# Altium footprint library CeleronLib_Connect.PcbLib: 219 footprints (part 9 of 14)
Each footprint in its own frame and in the unit in brackets; x right, y up, seen from the top. Pads: shape width x height; smd on the part's side, far side on the other; paste and mask are expansions set on the pad; w line width, h text height; cw(c..) or ccw(c..) is an arc to the next point about the centre after c.
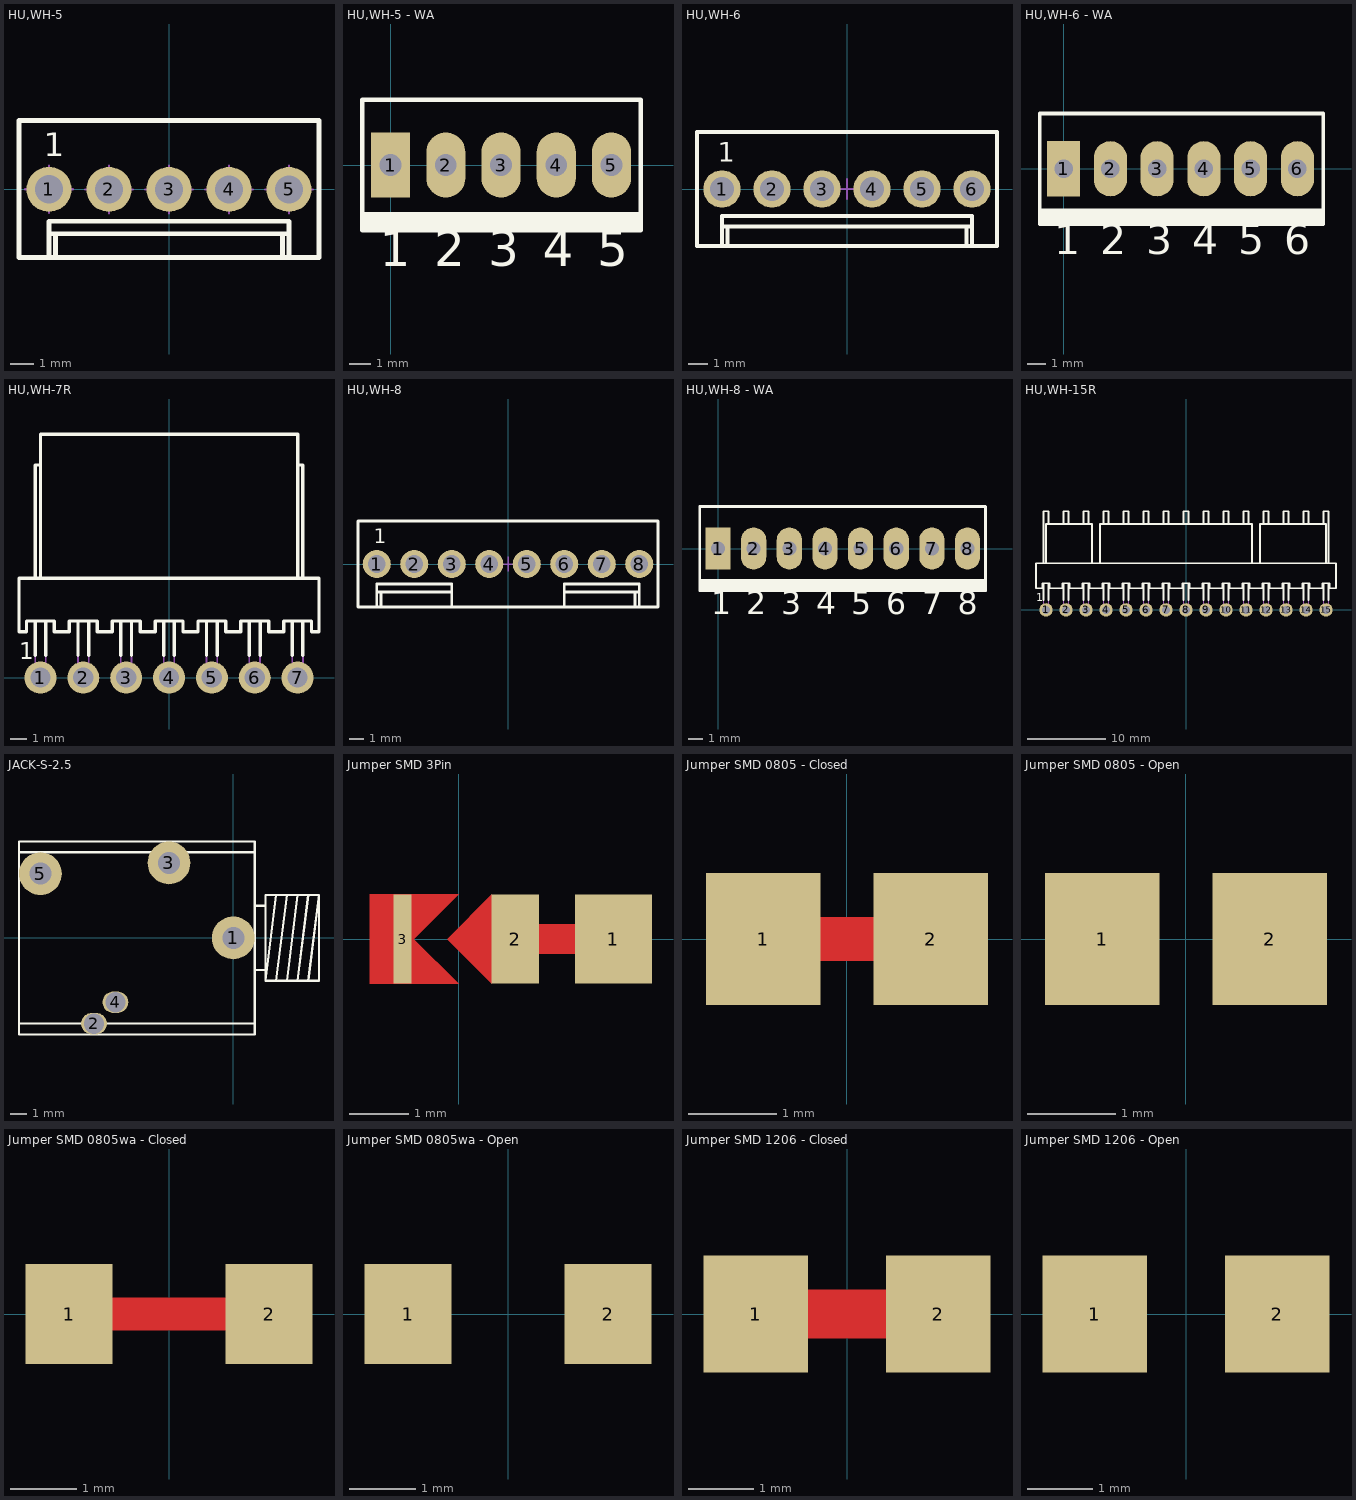
[diagram p8: the footprints below, top view; thin cyan lines are the x and y axes]

## HU,WH-5 [mm] "2.54mm (.100\") Pitch KK® Header, Single Row, Vertical, 5 Circuits"
height 11.7
pads (5):
  round 1.9 hole 1.2: 1(-5.08,0.005) 2(-2.54,0) 3(0,0) 4(2.54,0) 5(5.08,0)
Top Overlay:
  lines w0.2: -5.08,-2.88 -5.08,-1.35 5.08,-1.35 5.08,-2.88 ; -5.08,-1.88 5.08,-1.88 ; -4.807,-2.88 -4.807,-1.88 ; 4.807,-2.88 4.807,-1.88 ; -6.35,-2.88 -6.35,2.92 6.35,2.92 6.35,-2.88 -6.35,-2.88
  text "1" at -5.3,1.4 h1
Mechanical 8:
  lines w0.1: -6.08,0.005 -5.08,0.005 ; -5.08,-0.995 -5.08,0.005 ; -5.08,1.005 -5.08,0.005 ; -4.08,0.005 -5.08,0.005 ; -3.54,0 -2.54,0 ; -2.54,-1 -2.54,0 ; -2.54,1 -2.54,0 ; -1.54,0 -2.54,0 ; -1,0 0,0 ; 0,-1 0,0 ; 0,1 0,0 ; 1,0 0,0 ; 1.54,0 2.54,0 ; 2.54,-1 2.54,0 ; 2.54,1 2.54,0 ; 3.54,0 2.54,0 ; 4.08,0 5.08,0 ; 5.08,-1 5.08,0 ; 5.08,1 5.08,0 ; 6.08,0 5.08,0
Top Assy:
  lines w0.1: -5.08,-2.88 -5.08,-1.35 5.08,-1.35 5.08,-2.88 ; -5.08,-1.88 5.08,-1.88 ; -4.807,-2.88 -4.807,-1.88 ; 4.807,-2.88 4.807,-1.88 ; -6.35,-2.88 -6.35,2.92 6.35,2.92 6.35,-2.88 -6.35,-2.88 ; -5.4,-0.315 -4.76,-0.315 -4.76,0.325 -5.4,0.325 -5.4,-0.315 ; -2.86,-0.32 -2.86,0.32 -2.22,0.32 -2.22,-0.32 -2.86,-0.32 ; -0.32,-0.32 0.32,-0.32 0.32,0.32 -0.32,0.32 -0.32,-0.32 ; 2.22,-0.32 2.86,-0.32 2.86,0.32 2.22,0.32 2.22,-0.32 ; 4.76,-0.32 5.4,-0.32 5.4,0.32 4.76,0.32 4.76,-0.32
  text "1" at -5.3,1.4 h1
3D body: height 11.7, standoff -3.56, extent -6.35,-2.88 6.35,2.92

## HU,WH-5 - WA [mm] "Connector; Header; 5 Position"
height 16.2
pads (5):
  rect 1.8x3 hole 1: 1(0,0)
  oval 1.8x3 hole 1: 2(2.54,0) 3(5.08,0) 4(7.62,0) 5(10.16,0)
Top Overlay:
  rectangle: -1.25,-3 11.5,-2.159
  lines w0.2: -1.3,-3 11.5,-3 11.5,3 -1.3,3 -1.3,-3
  text "1" at -0.5,-5.2 h2.8
  text "2" at 2,-5.2 h2.8
  text "3" at 4.5,-5.2 h2.8
  text "4" at 7,-5.2 h2.8
  text "5" at 9.5,-5.2 h2.8
3D body: height 11.7, standoff -3.56, extent -1.27,-2.88 11.43,2.92

## HU,WH-6 [mm] "2.54mm (.100\") Pitch KK® Header, Single Row, Vertical, 6 Circuits"
height 11.7
pads (6):
  round 1.9 hole 1.2: 1(-6.35,0) 2(-3.81,0) 3(-1.27,0) 4(1.27,0) 5(3.81,0) 6(6.35,0)
Top Overlay:
  lines w0.2: -6.35,-2.9 -6.35,-1.37 6.35,-1.37 6.35,-2.9 ; -6.35,-1.9 6.35,-1.9 ; -6.077,-2.9 -6.077,-1.9 ; 6.077,-2.9 6.077,-1.9 ; -7.62,-2.9 -7.62,2.9 7.62,2.9 7.62,-2.9 -7.62,-2.9
  text "1" at -6.57,1.395 h1
Mechanical 8:
  lines w0.1: -6.85,0 -6.35,0 ; -6.35,-0.5 -6.35,0 ; -6.35,0.5 -6.35,0 ; -5.85,0 -6.35,0 ; -4.31,0 -3.81,0 ; -3.81,-0.5 -3.81,0 ; -3.81,0.5 -3.81,0 ; -3.31,0 -3.81,0 ; -1.77,0 -1.27,0 ; -1.27,-0.5 -1.27,0 ; -1.27,0.5 -1.27,0 ; -0.77,0 -1.27,0 ; -0.5,0 0,0 ; 0,-0.5 0,0 ; 0,0.5 0,0 ; 0.5,0 0,0 ; 0.77,0 1.27,0 ; 1.27,-0.5 1.27,0 ; 1.27,0.5 1.27,0 ; 1.77,0 1.27,0 ; 3.31,0 3.81,0 ; 3.81,-0.5 3.81,0 ; 3.81,0.5 3.81,0 ; 4.31,0 3.81,0 ; 5.85,0 6.35,0 ; 6.35,-0.5 6.35,0 ; 6.35,0.5 6.35,0 ; 6.85,0 6.35,0
Top Assy:
  lines w0.1: -6.35,-2.9 -6.35,-1.37 6.35,-1.37 6.35,-2.9 ; -6.35,-1.9 6.35,-1.9 ; -6.077,-2.9 -6.077,-1.9 ; 6.077,-2.9 6.077,-1.9 ; -7.62,-2.9 -7.62,2.9 7.62,2.9 7.62,-2.9 -7.62,-2.9 ; -6.67,-0.34 -6.03,-0.34 -6.03,0.3 -6.67,0.3 -6.67,-0.34 ; -4.13,-0.34 -4.13,0.3 -3.49,0.3 -3.49,-0.34 -4.13,-0.34 ; -1.59,-0.34 -0.95,-0.34 -0.95,0.3 -1.59,0.3 -1.59,-0.34 ; 0.95,-0.34 1.59,-0.34 1.59,0.3 0.95,0.3 0.95,-0.34 ; 3.49,-0.34 3.49,0.3 4.13,0.3 4.13,-0.34 3.49,-0.34 ; 6.03,-0.34 6.03,0.3 6.67,0.3 6.67,-0.34 6.03,-0.34
  text "1" at -6.57,1.395 h1
3D body: height 11.7, standoff -3.56, extent -7.62,-2.9 7.62,2.9

## HU,WH-6 - WA [mm] "Connector; Header; 6 Position"
height 16.2
pads (6):
  rect 1.8x3 hole 1: 1(0,0)
  oval 1.8x3 hole 1: 2(2.54,0) 3(5.08,0) 4(7.62,0) 5(10.16,0) 6(12.7,0)
Top Overlay:
  rectangle: -1.25,-3 14.1,-2.159
  lines w0.2: -1.3,-3 -1.3,3 14.1,3 14.1,-3 -1.3,-3
  text "1" at -0.5,-5.2 h2.8
  text "2" at 2,-5.2 h2.8
  text "3" at 4.5,-5.2 h2.8
  text "4" at 7,-5.2 h2.8
  text "5" at 9.5,-5.2 h2.8
  text "6" at 12,-5.2 h2.8
3D body: height 11.7, standoff -3.56, extent -1.27,-2.9 13.97,2.9

## HU,WH-7R [mm] "2.54mm (.100\") Pitch KK® Wire-To-Board Header, Right Angle, With Friction Lock, 7 Circuits"
height 5.8
pads (7):
  round 1.9 hole 1.2: 1(-7.62,0) 2(-5.08,0) 3(-2.54,0) 4(0,0) 5(2.54,0) 6(5.08,0) 7(7.62,0)
Top Overlay:
  lines w0.2: -7.937,1.312 -7.937,3.355 ; -7.937,5.895 -7.937,12.605 -7.62,12.605 ; -7.62,5.895 -7.62,14.42 7.62,14.42 7.62,5.895 ; -7.302,1.312 -7.302,3.355 ; -5.397,1.312 -5.397,3.355 ; -4.762,1.312 -4.762,3.355 ; -2.857,1.312 -2.857,3.355 ; -2.222,1.312 -2.222,3.355 ; -0.317,1.312 -0.317,3.355 ; 0.318,1.312 0.318,3.355 ; 2.223,1.312 2.223,3.355 ; 2.858,1.312 2.858,3.355 ; 4.763,1.312 4.763,3.355 ; 5.398,1.312 5.398,3.355 ; 7.303,1.312 7.303,3.355 ; 7.62,12.605 7.938,12.605 7.938,5.895 ; 7.938,1.312 7.938,3.355 ; -8.89,2.72 -8.445,2.72 -8.445,3.355 -6.794,3.355 -6.794,2.72 -5.905,2.72 -5.905,3.355 -4.254,3.355 -4.254,2.72 -3.365,2.72 -3.365,3.355 -1.714,3.355 -1.714,2.72 -0.825,2.72 -0.825,3.355 0.826,3.355 0.826,2.72 1.715,2.72 1.715,3.355 3.366,3.355 3.366,2.72 4.255,2.72 4.255,3.355 5.906,3.355 5.906,2.72 6.795,2.72 6.795,3.355 8.446,3.355 8.446,2.72 8.89,2.72 8.89,5.895 -8.89,5.895 -8.89,2.72
  text "1" at -8.892,1.093 h1
Mechanical 8:
  lines w0.1: -8.12,0 -7.62,0 ; -7.62,-0.5 -7.62,0 ; -7.62,0.5 -7.62,0 ; -7.12,0 -7.62,0 ; -5.58,0 -5.08,0 ; -5.08,-0.5 -5.08,0 ; -5.08,0.5 -5.08,0 ; -4.58,0 -5.08,0 ; -3.04,0 -2.54,0 ; -2.54,-0.5 -2.54,0 ; -2.54,0.5 -2.54,0 ; -2.04,0 -2.54,0 ; -0.5,0 0,0 ; 0,-0.5 0,0 ; 0,0.5 0,0 ; 0.5,0 0,0 ; 2.04,0 2.54,0 ; 2.54,-0.5 2.54,0 ; 2.54,0.5 2.54,0 ; 3.04,0 2.54,0 ; 4.58,0 5.08,0 ; 5.08,-0.5 5.08,0 ; 5.08,0.5 5.08,0 ; 5.58,0 5.08,0 ; 7.12,0 7.62,0 ; 7.62,-0.5 7.62,0 ; 7.62,0.5 7.62,0 ; 8.12,0 7.62,0
Top Assy:
  lines w0.1: -7.937,3.355 -7.937,-0.318 -7.302,-0.318 -7.302,3.355 ; -7.937,5.895 -7.937,12.605 -7.62,12.605 ; -7.62,5.895 -7.62,14.42 7.62,14.42 7.62,5.895 ; -5.397,3.355 -5.397,-0.318 -4.762,-0.318 -4.762,3.355 ; -2.857,3.355 -2.857,-0.318 -2.222,-0.318 -2.222,3.355 ; -0.317,3.355 -0.317,-0.318 0.318,-0.318 0.318,3.355 ; 2.223,3.355 2.223,-0.318 2.858,-0.318 2.858,3.355 ; 4.763,3.355 4.763,-0.318 5.398,-0.318 5.398,3.355 ; 7.303,3.355 7.303,-0.318 7.938,-0.318 7.938,3.355 ; 7.62,12.605 7.938,12.605 7.938,5.895 ; -8.89,2.72 -8.445,2.72 -8.445,3.355 -6.794,3.355 -6.794,2.72 -5.905,2.72 -5.905,3.355 -4.254,3.355 -4.254,2.72 -3.365,2.72 -3.365,3.355 -1.714,3.355 -1.714,2.72 -0.825,2.72 -0.825,3.355 0.826,3.355 0.826,2.72 1.715,2.72 1.715,3.355 3.366,3.355 3.366,2.72 4.255,2.72 4.255,3.355 5.906,3.355 5.906,2.72 6.795,2.72 6.795,3.355 8.446,3.355 8.446,2.72 8.89,2.72 8.89,5.895 -8.89,5.895 -8.89,2.72
  text "1" at -8.892,1.093 h1
3D body: height 5.84, standoff -3.8, extent -8.89,-0.317 8.89,14.42

## HU,WH-8 [mm] "2.54mm (.100\") Pitch KK® Header, Single Row, Vertical, 8 Circuits"
height 11.7
pads (8):
  round 1.9 hole 1.2: 1(-8.89,0) 2(-6.35,0) 3(-3.81,0) 4(-1.27,0) 5(1.27,0) 6(3.81,0) 7(6.35,0) 8(8.89,0)
Top Overlay:
  lines w0.2: -8.89,-2.9 -8.89,-1.37 -3.81,-1.37 -3.81,-2.9 ; -8.89,-1.9 -3.81,-1.9 ; -8.617,-2.9 -8.617,-1.9 ; 3.81,-2.9 3.81,-1.37 8.89,-1.37 8.89,-2.9 ; 3.81,-1.9 8.89,-1.9 ; 8.617,-2.9 8.617,-1.9 ; -10.16,-2.9 -10.16,2.9 10.16,2.9 10.16,-2.9 -10.16,-2.9
  text "1" at -9.11,1.395 h1
Mechanical 8:
  lines w0.1: -9.39,0 -8.89,0 ; -8.89,-0.5 -8.89,0 ; -8.89,0.5 -8.89,0 ; -8.39,0 -8.89,0 ; -6.85,0 -6.35,0 ; -6.35,-0.5 -6.35,0 ; -6.35,0.5 -6.35,0 ; -5.85,0 -6.35,0 ; -4.31,0 -3.81,0 ; -3.81,-0.5 -3.81,0 ; -3.81,0.5 -3.81,0 ; -3.31,0 -3.81,0 ; -1.77,0 -1.27,0 ; -1.27,-0.5 -1.27,0 ; -1.27,0.5 -1.27,0 ; -0.77,0 -1.27,0 ; -0.5,0 0,0 ; 0,-0.5 0,0 ; 0,0.5 0,0 ; 0.5,0 0,0 ; 0.77,0 1.27,0 ; 1.27,-0.5 1.27,0 ; 1.27,0.5 1.27,0 ; 1.77,0 1.27,0 ; 3.31,0 3.81,0 ; 3.81,-0.5 3.81,0 ; 3.81,0.5 3.81,0 ; 4.31,0 3.81,0 ; 5.85,0 6.35,0 ; 6.35,-0.5 6.35,0 ; 6.35,0.5 6.35,0 ; 6.85,0 6.35,0 ; 8.39,0 8.89,0 ; 8.89,-0.5 8.89,0 ; 8.89,0.5 8.89,0 ; 9.39,0 8.89,0
Top Assy:
  lines w0.1: -8.89,-2.9 -8.89,-1.37 -3.81,-1.37 -3.81,-2.9 ; -8.89,-1.9 -3.81,-1.9 ; -8.617,-2.9 -8.617,-1.9 ; 3.81,-2.9 3.81,-1.37 8.89,-1.37 8.89,-2.9 ; 3.81,-1.9 8.89,-1.9 ; 8.617,-2.9 8.617,-1.9 ; -10.16,-2.9 -10.16,2.9 10.16,2.9 10.16,-2.9 -10.16,-2.9 ; -9.21,-0.34 -8.57,-0.34 -8.57,0.3 -9.21,0.3 -9.21,-0.34 ; -6.67,-0.34 -6.67,0.3 -6.03,0.3 -6.03,-0.34 -6.67,-0.34 ; -4.13,-0.34 -3.49,-0.34 -3.49,0.3 -4.13,0.3 -4.13,-0.34 ; -1.59,-0.34 -0.95,-0.34 -0.95,0.3 -1.59,0.3 -1.59,-0.34 ; 0.95,-0.34 0.95,0.3 1.59,0.3 1.59,-0.34 0.95,-0.34 ; 3.49,-0.34 3.49,0.3 4.13,0.3 4.13,-0.34 3.49,-0.34 ; 6.03,-0.34 6.03,0.3 6.67,0.3 6.67,-0.34 6.03,-0.34 ; 8.57,-0.34 8.57,0.3 9.21,0.3 9.21,-0.34 8.57,-0.34
  text "1" at -9.11,1.395 h1
3D body: height 11.7, standoff -3.56, extent -10.16,-2.9 10.16,2.9

## HU,WH-8 - WA [mm] "Connector; Header; 8 Position"
height 16.2
pads (8):
  rect 1.8x3 hole 1: 1(0,0)
  oval 1.8x3 hole 1: 2(2.54,0) 3(5.08,0) 4(7.62,0) 5(10.16,0) 6(12.7,0) 7(15.24,0) 8(17.78,0)
Top Overlay:
  rectangle: -1.25,-3 19.05,-2.159
  lines w0.2: -1.3,-3 -1.3,3 19.053,3 19.053,-3 -1.3,-3
  text "1" at -0.5,-5.2 h2.8
  text "2" at 2,-5.2 h2.8
  text "3" at 4.5,-5.2 h2.8
  text "4" at 7,-5.2 h2.8
  text "5" at 9.5,-5.2 h2.8
  text "6" at 12,-5.2 h2.8
  text "7" at 14.54,-5.2 h2.8
  text "8" at 17.08,-5.2 h2.8
3D body: height 11.7, standoff -3.56, extent -1.27,-2.9 19.05,2.9

## HU,WH-15R [mm] "2.54mm (.100\") Pitch KK® Wire-To-Board Header, Right Angle, With Friction Lock, 15 Circuits"
height 6.6
pads (15):
  round 1.7 hole 1: 1(-17.78,0) 2(-15.24,0) 3(-12.7,0) 4(-10.16,0) 5(-7.62,0) 6(-5.08,0) 7(-2.54,0) 8(0,0) 9(2.54,0) 10(5.08,0) 11(7.62,0) 12(10.16,0) 13(12.7,0) 14(15.24,0) 15(17.78,0)
Top Overlay:
  lines w0.2: -18.098,1.25 -18.098,3.366 ; -18.098,5.906 -18.098,12.51 -17.463,12.51 -17.463,10.909 ; -17.78,5.906 -17.78,10.909 -11.938,10.909 -11.938,5.906 ; -17.463,1.25 -17.463,3.366 ; -15.558,1.25 -15.558,3.366 ; -15.558,10.909 -15.558,12.51 -14.923,12.51 -14.923,10.909 ; -14.923,1.25 -14.923,3.366 ; -13.018,1.25 -13.018,3.366 ; -13.018,10.909 -13.018,12.51 -12.383,12.51 -12.383,10.909 ; -12.383,1.25 -12.383,3.366 ; -10.922,5.906 -10.922,10.909 8.382,10.909 8.382,5.906 ; -10.478,1.25 -10.478,3.366 ; -10.478,10.909 -10.478,12.51 -9.843,12.51 -9.843,10.909 ; -9.843,1.25 -9.843,3.366 ; -7.938,1.25 -7.938,3.366 ; -7.938,10.909 -7.938,12.51 -7.303,12.51 -7.303,10.909 ; -7.303,1.25 -7.303,3.366 ; -5.398,1.25 -5.398,3.366 ; -5.398,10.909 -5.398,12.51 -4.763,12.51 -4.763,10.909 ; -4.763,1.25 -4.763,3.366 ; -2.858,1.25 -2.858,3.366 ; -2.858,10.909 -2.858,12.51 -2.222,12.51 -2.222,10.909 ; -2.222,1.25 -2.222,3.366 ; -0.318,1.25 -0.318,3.366 ; -0.318,10.909 -0.318,12.51 0.318,12.51 0.318,10.909 ; 0.318,1.25 0.318,3.366 ; 2.222,1.25 2.222,3.366 ; 2.222,10.909 2.222,12.51 2.858,12.51 2.858,10.909 ; 2.858,1.25 2.858,3.366 ; 4.763,1.25 4.763,3.366 ; 4.763,10.909 4.763,12.51 5.398,12.51 5.398,10.909 ; 5.398,1.25 5.398,3.366 ; 7.303,1.25 7.303,3.366 ; 7.303,10.909 7.303,12.51 7.938,12.51 7.938,10.909 ; 7.938,1.25 7.938,3.366 ; 9.398,5.906 9.398,10.909 17.78,10.909 17.78,5.906 ; 9.843,1.25 9.843,3.366 ; 9.843,10.909 9.843,12.51 10.478,12.51 10.478,10.909 ; 10.478,1.25 10.478,3.366 ; 12.383,1.25 12.383,3.366 ; 12.383,10.909 12.383,12.51 13.018,12.51 13.018,10.909 ; 13.018,1.25 13.018,3.366 ; 14.923,1.25 14.923,3.366 ; 14.923,10.909 14.923,12.51 15.558,12.51 15.558,10.909 ; 15.558,1.25 15.558,3.366 ; 17.463,1.25 17.463,3.366 ; 17.463,10.909 17.463,12.51 18.098,12.51 18.098,5.906 ; 18.098,1.25 18.098,3.366 ; -19.05,2.731 -19.05,5.906 19.05,5.906 19.05,2.731 18.225,2.731 18.225,3.366 17.336,3.366 17.336,2.731 15.685,2.731 15.685,3.366 14.796,3.366 14.796,2.731 13.145,2.731 13.145,3.366 12.256,3.366 12.256,2.731 10.605,2.731 10.605,3.366 9.716,3.366 9.716,2.731 8.065,2.731 8.065,3.366 7.176,3.366 7.176,2.731 5.525,2.731 5.525,3.366 4.636,3.366 4.636,2.731 2.985,2.731 2.985,3.366 2.095,3.366 2.095,2.731 0.445,2.731 0.445,3.366 -0.445,3.366 -0.445,2.731 -2.095,2.731 -2.095,3.366 -2.985,3.366 -2.985,2.731 -4.636,2.731 -4.636,3.366 -5.525,3.366 -5.525,2.731 -7.176,2.731 -7.176,3.366 -8.065,3.366 -8.065,2.731 -9.716,2.731 -9.716,3.366 -10.605,3.366 -10.605,2.731 -12.256,2.731 -12.256,3.366 -13.145,3.366 -13.145,2.731 -14.796,2.731 -14.796,3.366 -15.685,3.366 -15.685,2.731 -17.336,2.731 -17.336,3.366 -18.225,3.366 -18.225,2.731 -19.05,2.731
  text "1" at -19.053,1.093 h1
Mechanical 8:
  lines w0.1: -18.28,0 -17.78,0 ; -17.78,-0.5 -17.78,0 ; -17.78,0.5 -17.78,0 ; -17.28,0 -17.78,0 ; -15.74,0 -15.24,0 ; -15.24,-0.5 -15.24,0 ; -15.24,0.5 -15.24,0 ; -14.74,0 -15.24,0 ; -13.2,0 -12.7,0 ; -12.7,-0.5 -12.7,0 ; -12.7,0.5 -12.7,0 ; -12.2,0 -12.7,0 ; -10.66,0 -10.16,0 ; -10.16,-0.5 -10.16,0 ; -10.16,0.5 -10.16,0 ; -9.66,0 -10.16,0 ; -8.12,0 -7.62,0 ; -7.62,-0.5 -7.62,0 ; -7.62,0.5 -7.62,0 ; -7.12,0 -7.62,0 ; -5.58,0 -5.08,0 ; -5.08,-0.5 -5.08,0 ; -5.08,0.5 -5.08,0 ; -4.58,0 -5.08,0 ; -3.04,0 -2.54,0 ; -2.54,-0.5 -2.54,0 ; -2.54,0.5 -2.54,0 ; -2.04,0 -2.54,0 ; -0.5,0 0,0 ; 0,-0.5 0,0 ; 0,0.5 0,0 ; 0.5,0 0,0 ; 2.04,0 2.54,0 ; 2.54,-0.5 2.54,0 ; 2.54,0.5 2.54,0 ; 3.04,0 2.54,0 ; 4.58,0 5.08,0 ; 5.08,-0.5 5.08,0 ; 5.08,0.5 5.08,0 ; 5.58,0 5.08,0 ; 7.12,0 7.62,0 ; 7.62,-0.5 7.62,0 ; 7.62,0.5 7.62,0 ; 8.12,0 7.62,0 ; 9.66,0 10.16,0 ; 10.16,-0.5 10.16,0 ; 10.16,0.5 10.16,0 ; 10.66,0 10.16,0 ; 12.2,0 12.7,0 ; 12.7,-0.5 12.7,0 ; 12.7,0.5 12.7,0 ; 13.2,0 12.7,0 ; 14.74,0 15.24,0 ; 15.24,-0.5 15.24,0 ; 15.24,0.5 15.24,0 ; 15.74,0 15.24,0 ; 17.28,0 17.78,0 ; 17.78,-0.5 17.78,0 ; 17.78,0.5 17.78,0 ; 18.28,0 17.78,0
Top Assy:
  drawing of 163 lines, arcs and shapes, not listed
  text "1" at -19.053,1.093 h1
3D body: height 6.35, standoff -3.58, extent -19.05,-0.317 19.05,12.51

## JACK-S-2.5 [mil]
pads (5):
  round 100 hole 51.18: 1(0,0) 3(-150,175) 5(-450,150)
  oval 60x50 hole 47.24: 2(-325,-200) 4(-275,-150)
Top Overlay:
  lines w5: -500,-200 50,-200 ; -500,200 50,200 ; 50,-75 75,-75 ; 50,75 75,75 ; 100,-100 125,100 ; 100,100 75,-100 ; 125,-100 150,100 ; 150,-100 175,100 ; 175,-100 200,100 ; 75,-100 75,100 200,100 ; 75,-100 200,-100 200,100 ; -500,-225 50,-225 50,225 -500,225 -500,-225

## Jumper SMD 3Pin [mm] "Jumper. Перемычка. Chip Resistor; Body 2.0 x 1.3 mm (LxW typ)"
height 0.5
pads (3):
  rect 1.3x1.5 smd: 1(2.6,0)
  rect 0.8x1.5 smd: 2(0.95,0)
  rect 0.3x1.5 smd: 3(-0.95,0)
Top Layer:
  region: 0.55,0.75 -0.2,0 0.55,-0.75
  region: 0,0.75 -1.5,0.75 -1.5,-0.75 0,-0.75 -0.76,0
  lines w0.5: 0.25,0 2.2,0
Top Solder:
  rectangle: -1.6,-0.87 1.45,0.87

## Jumper SMD 0805 - Closed [mm] "Jumper. Перемычка. Chip Resistor; Body 2.0 x 1.3 mm (LxW typ)"
height 2.54
pads (2):
  rect 1.3x1.5 smd: 1(-0.95,0) 2(0.95,0)
Top Layer:
  lines w0.5: -0.95,0 0.95,0

## Jumper SMD 0805 - Open [mm] "Jumper. Перемычка. Chip Resistor; Body 2.0 x 1.3 mm (LxW typ)"
height 2.54
pads (2):
  rect 1.3x1.5 smd: 1(-0.95,0) 2(0.95,0)

## Jumper SMD 0805wa - Closed [mm] "Jumper. Перемычка. Chip Resistor; Body 2.0 x 1.3 mm (LxW typ)"
height 2.54
pads (2):
  rect 1.3x1.5 smd: 1(-1.5,0) 2(1.5,0)
Top Layer:
  lines w0.5: -1.5,0 1.5,0

## Jumper SMD 0805wa - Open [mm] "Jumper. Перемычка. Chip Resistor; Body 2.0 x 1.3 mm (LxW typ)"
height 2.54
pads (2):
  rect 1.3x1.5 smd: 1(-1.5,0) 2(1.5,0)

## Jumper SMD 1206 - Closed [mm] "Jumper. Перемычка. Chip Resistor; Body 3.1 x 1.6 mm (LxW typ)"
height 3.2
pads (2):
  rect 1.6x1.8 smd: 1(-1.4,0) 2(1.4,0)
Top Layer:
  lines w0.75: -1.4,0 1.4,0

## Jumper SMD 1206 - Open [mm] "Jumper. Перемычка. Chip Resistor; Body 3.1 x 1.6 mm (LxW typ)"
height 3.2
pads (2):
  rect 1.6x1.8 smd: 1(-1.4,0) 2(1.4,0)